# Altium schematic symbol library CL05A105KO5NNNC.SchLib: 2 symbols
Pins are listed as number, name and electrical type; pins without a type are passive.

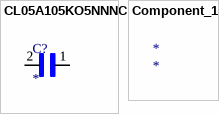
[diagram p0: symbols CL05A105KO5NNNC to Component_1]

## CL05A105KO5NNNC
designator C?
Capacitor: ceramic; 1uF; 16V; X5R; Â±10%; SMD; 0402; MF: {'manufacturer': u'Samsung'}; MP: CL05A105KO5NNNC; Package: None; Availability: Unavailable; Value: *; Price: None
footprint CAPC1005X55N
pins: 1, 2

## Component_1
designator *